# EAGLE library part 555X-10 (library con-molex-2)
Mini FIT connector 10 way
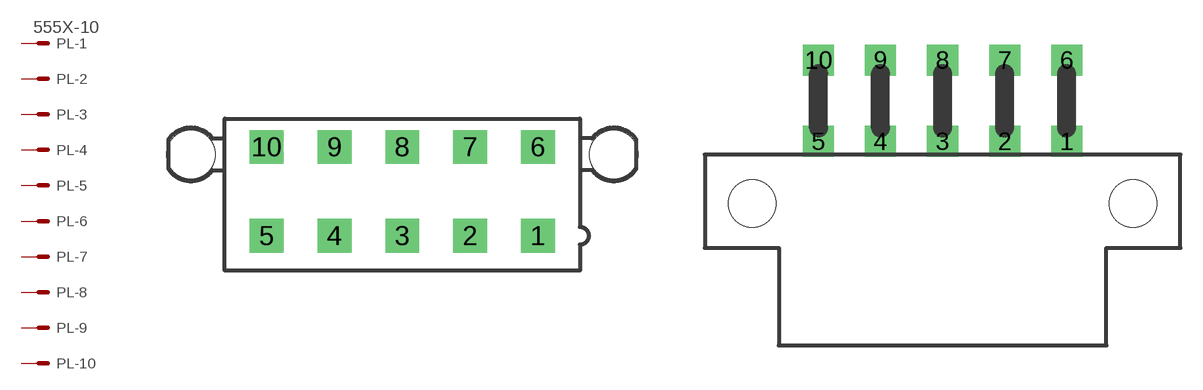
[diagram p2: symbol with the pads of 5566-10; footprints 5566-10, 5569-10]

Designator prefix PL; gates -1=MV -2=M -3=M -4=M -5=M -6=M -7=M -8=M -9=M -10=M

## 555X-10V  [5566-10]
1  -1:S  pas
2  -2:S  pas
3  -3:S  pas
4  -4:S  pas
5  -5:S  pas
6  -6:S  pas
7  -7:S  pas
8  -8:S  pas
9  -9:S  pas
10  -10:S  pas

## 555X-10H  [5569-10]
Pads as for 5566-10

## Footprint 5566-10 (pad centres in mm)
Mini FIT connector 10 pol
drill 1.4 square: 1 8.4,-2.75; 2 4.2,-2.75; 3 0,-2.75; 4 -4.2,-2.75; 5 -8.4,-2.75; 6 8.4,2.75; 7 4.2,2.75; 8 0,2.75; 9 -4.2,2.75; 10 -8.4,2.75
hole 3 at 13.1,2.29
hole 3 at -13.1,2.29

## Footprint 5569-10 (pad centres in mm)
Mini FIT connector 10 R/A
drill 1.4 square: 1 8.4,0; 2 4.2,0; 3 0,0; 4 -4.2,0; 5 -8.4,0; 6 8.4,5.5; 7 4.2,5.5; 8 0,5.5; 9 -4.2,5.5; 10 -8.4,5.5
hole 3.2 at 12.9,-4.2
hole 3.2 at -12.9,-4.2